# Altium schematic symbol library SML-H12D8TT86C.SchLib: 1 symbol
Pins are listed as number, name and electrical type; pins without a type are passive.

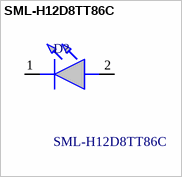
[diagram p0: symbol SML-H12D8TT86C]

## SML-H12D8TT86C
designator D?
ROHM - SML-H12D8TT86C - LED, Orange, SMD, 0805, 20 mA, 2.2 V, 605 nm; Manufacturer_Name: ROHM Semiconductor; Geometry.Height: 0.9mm; Mouser Part Number: 755-SML-H12D8TT86C; Mouser Price/Stock: https://www.mouser.co.uk/ProductDetail/ROHM-Semiconductor/SML-H12D8TT86C?qs=HXFqYaX1Q2zvr%2FF6ntdhJw%3D%3D; Manufacturer_Part_Number: SML-H12D8TT86C; Datasheet Link: https://ms.componentsearchengine.com/Datasheets/2/SML-H12D8TT86C.pdf
footprint LEDC2012X90N
pins: 1 K, 2 A